# EAGLE library part USB4110-GF-A_REVB (library USB4110-GF-A_REVB)
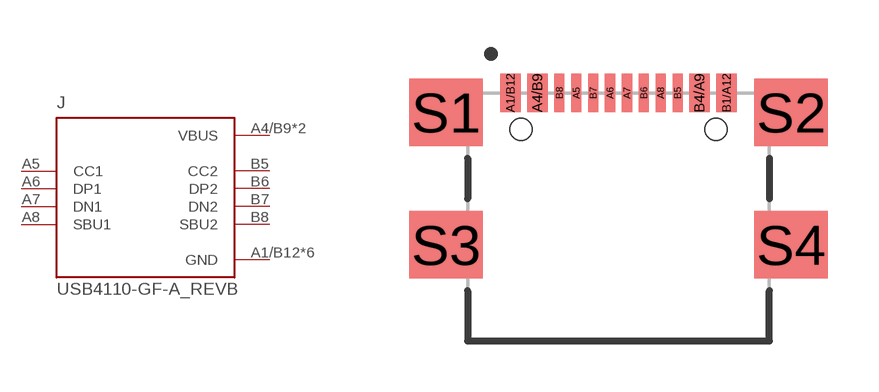
[diagram p0: symbol with the pads of GCT_USB4110-GF-A_REVB; footprint GCT_USB4110-GF-A_REVB]

Designator prefix J

## USB4110-GF-A_REVB (Description: USB-C (USB TYPE-C) USB 2.0 Receptacle Connector 24 (16+8 Dummy) Position Surface Mount, Right Angle; Through Hole; MF: GCT; MP: USB4110-GF-A; Package: None; Purchase-URL: https://pricing.snapeda.com/search/part/USB4110-GF-A/?ref=eda)  [GCT_USB4110-GF-A_REVB]
A1/B12  GND  pwr
A4/B9  VBUS  pwr
A5  CC1
A6  DP1
A7  DN1
A8  SBU1
B1/A12  GND  pwr
B4/A9  VBUS  pwr
B5  CC2
B6  DP2
B7  DN2
B8  SBU2
S1  GND  pwr
S2  GND  pwr
S3  GND  pwr
S4  GND  pwr

## Footprint GCT_USB4110-GF-A_REVB (pad centres in mm)
smd 0.6 x 1.15: A1/B12 -3.2,1.075; A4/B9 -2.4,1.075; B1/A12 3.2,1.075; B4/A9 2.4,1.075
smd 0.3 x 1.15: A5 -1.25,1.075; A6 -0.25,1.075; A7 0.25,1.075; A8 1.25,1.075; B5 1.75,1.075; B6 0.75,1.075; B7 -0.75,1.075; B8 -1.75,1.075
smd 2.18 x 2: S1 -5.11,0.5; S2 5.11,0.5; S3 -5.11,-3.43; S4 5.11,-3.43
hole 0.65 at -2.89,0
hole 0.65 at 2.89,0